# Altium footprint library LCSC_3.PcbLib: 12 footprints
Each footprint in its own frame and in the unit in brackets; x right, y up, seen from the top. Pads: shape width x height; smd on the part's side, far side on the other; paste and mask are expansions set on the pad; w line width, h text height; cw(c..) or ccw(c..) is an arc to the next point about the centre after c.
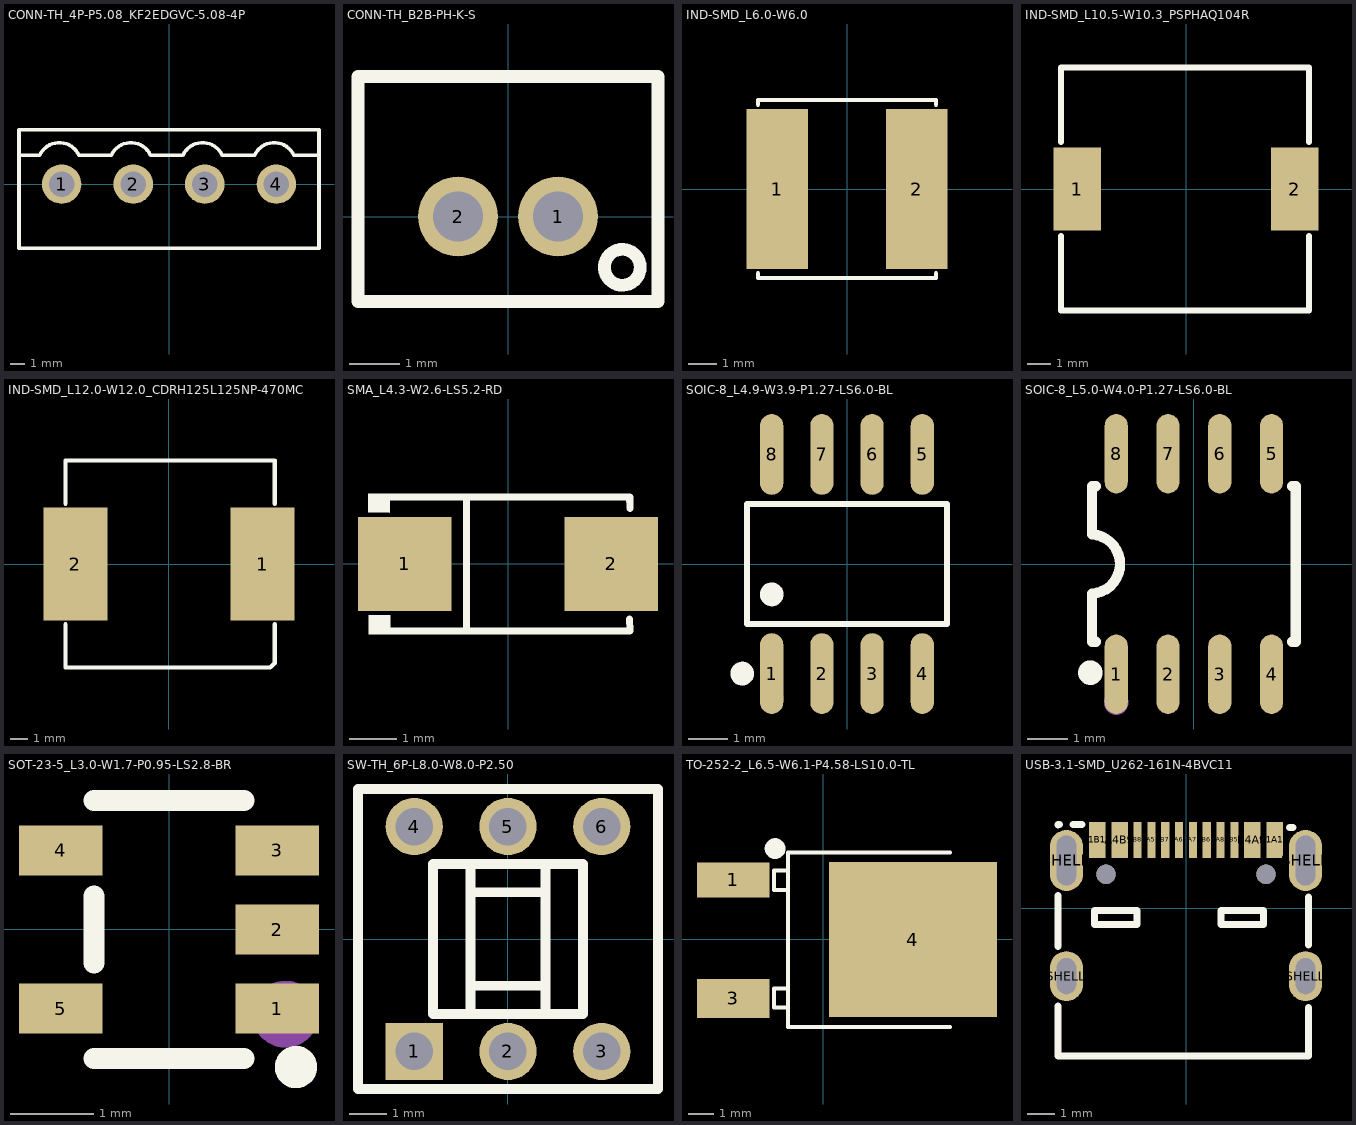
[diagram p0: the footprints below, top view; thin cyan lines are the x and y axes]

## CONN-TH_4P-P5.08_KF2EDGVC-5.08-4P [mm]
pads (4):
  round 2.8 hole 1.8: 1(-7.62,0) 2(-2.54,0) 3(2.54,0) 4(7.62,0)
Top Overlay:
  lines w0.254: -10.64,2.032 -9.177,2.032 cw(c-7.78,1.407) -6.383,2.032 -4.097,2.032 cw(c-2.7,1.407) -1.303,2.032 0.983,2.032 cw(c2.38,1.407) 3.777,2.032 6.063,2.032 cw(c7.46,1.407) 8.857,2.032 10.64,2.032 ; -10.64,-4.55 10.64,-4.55 10.64,3.85 -10.64,3.85 -10.64,-4.55

## CONN-TH_B2B-PH-K-S [mm]
pads (2):
  round 1.6 hole 1: 1(1,0) 2(-1,0)
Top Overlay:
  circle w0.254: c2.286,-1.016 r0.359
  lines w0.254: -3,-1.7 -3,2.8 3,2.8 3,-1.7 -3,-1.7

## IND-SMD_L6.0-W6.0 [mm]
pads (2):
  rect 2.2x5.72 smd: 1(-2.5,0) 2(2.5,0)
Top Overlay:
  lines w0.152: -3.176,-3.012 -3.176,-3.176 3.176,-3.176 3.176,-3.012 ; -3.176,3.012 -3.176,3.176 3.176,3.176 3.176,3.012

## IND-SMD_L10.5-W10.3_PSPHAQ104R [mm]
pads (2):
  rect 2x3.5 smd: 1(-4.605,0) 2(4.605,0)
Top Overlay:
  lines w0.254: -5.295,-1.981 -5.295,-5.15 5.205,-5.15 5.205,-1.981 ; -5.295,1.981 -5.295,5.15 5.205,5.15 5.205,1.981

## IND-SMD_L12.0-W12.0_CDRH125L125NP-470MC [mm]
pads (2):
  rect 3.7x6.5 smd: 1(5.4,0) 2(-5.4,0)
Top Overlay:
  lines w0.254: -5.969,-3.481 -5.969,-5.969 5.842,-5.969 6.096,-5.715 6.096,-3.481 ; -5.969,3.481 -5.969,5.969 6.096,5.969 6.096,3.481

## SMA_L4.3-W2.6-LS5.2-RD [mm]
pads (2):
  rect 2x2 smd: 1(-2.2,0) 2(2.2,0)
Top Overlay:
  region: -2.512,-1.096 -2.513,-1.503 -2.973,-1.498 -2.969,-1.096
  region: -2.52,1.502 -2.521,1.096 -2.981,1.1 -2.977,1.502
  lines w0.152: -2.596,-1.426 2.596,-1.426 ; -2.596,1.426 2.596,1.426 2.603,1.187 ; -0.884,-1.426 -0.884,1.426 ; 2.593,-1.176 2.6,-1.415
Mechanical 15:
  region: 2.014,-0.675 2.014,0.675 1.811,0.675 1.811,-0.675
  region: 2.29,-0.09 2.29,0.112 1.48,0.112 1.48,-0.09
  region: -2.317,-0.101 -2.317,0.101 -1.507,0.101 -1.507,-0.101

## SOIC-8_L4.9-W3.9-P1.27-LS6.0-BL [mm]
pads (8):
  oval 0.588x2.045 smd: 1(-1.905,-2.773) 2(-0.635,-2.773) 3(0.635,-2.773) 4(1.905,-2.773) 5(1.905,2.773) 6(0.635,2.773) 7(-0.635,2.773) 8(-1.905,2.773)
Top Overlay:
  circle w0.3: c-2.652,-2.772 r0.15
  circle w0.3: c-1.905,-0.769 r0.15
  lines w0.152: -2.526,-1.521 2.526,-1.521 2.526,1.521 -2.526,1.521 -2.526,-1.521
Mechanical 15:
  circle w0.3: c-1.905,-3.4 r0.15

## SOIC-8_L5.0-W4.0-P1.27-LS6.0-BL [mil]
pads (8):
  oval 22.38x76.78 smd: 1(-75,-106.5) 2(-25,-106.5) 3(25,-106.5) 4(75,-106.5) 5(75,106.5) 6(25,106.5) 7(-25,106.5) 8(-75,106.5)
Top Overlay:
  circle w11.81: c-100,-105 r5.91
  lines w10: -98.43,-28.61 ccw(c-99.99,0) -98.23,28.59 ; -98.42,-28.61 -98.42,-59.05 -98.42,-75 -94.83,-75 ; -98.42,28.59 -98.42,59.05 -98.42,75 -94.83,75 ; 94.83,-75 98.42,-75 98.42,-59.05 98.42,59.05 98.42,75 94.83,75
Mechanical 15:
  circle w11.81: c-75,-133.86 r5.91

## SOT-23-5_L3.0-W1.7-P0.95-LS2.8-BR [mm]
pads (5):
  rect 1x0.6 smd: 1(1.3,-0.95) 2(1.3,0) 3(1.3,0.95) 4(-1.3,0.95) 5(-1.3,-0.95)
Top Overlay:
  circle w0.254: c1.524,-1.651 r0.127
  lines w0.254: -0.9,-1.55 0.9,-1.55 ; -0.9,-0.4 -0.9,0.4 ; -0.9,1.55 0.9,1.55
Mechanical 15:
  circle w0.4: c1.397,-1.016 r0.2

## SW-TH_6P-L8.0-W8.0-P2.50 [mm]
pads (6):
  rect 1.524x1.524 hole 1: 1(-2.5,-3)
  round 1.524 hole 1: 2(0,-3) 3(2.5,-3) 4(-2.5,3) 5(0,3) 6(2.5,3)
Top Overlay:
  lines w0.254: -1,-2 -1,2 ; -1,-1.25 1,-1.25 ; -1,1.25 1,1.25 ; 1,-2 1,2 ; -4,-4 -4,4 4,4 4,-4 -4,-4 ; -2,-2 -2,2 2,2 2,-2 -2,-2

## TO-252-2_L6.5-W6.1-P4.58-LS10.0-TL [mm]
pads (3):
  rect 2.8x1.35 smd: 1(-3.475,2.29)
  rect 2.8x1.5 smd: 3(-3.475,-2.29)
  rect 6.5x6 smd: 4(3.475,-0.017)
Top Overlay:
  lines w0.152: -1.348,-2.635 -1.348,-2.645 -1.904,-2.645 -1.904,-1.903 -1.348,-1.903 ; -1.348,1.916 -1.348,1.905 -1.904,1.905 -1.904,2.647 -1.348,2.647 ; 4.903,-3.393 -1.349,-3.393 -1.349,3.359 4.903,3.359
  lines w0.4: -1.857,3.302 cw(c-1.856,3.502) -1.854,3.302
Mechanical 15:
  circle w0.5: c-4.165,2.286 r0.25

## USB-3.1-SMD_U262-161N-4BVC11 [mm]
pads (18):
  rect 0.6x1.3 smd: A1B12(-3.2,2.461) A4B9(-2.4,2.461) B1A12(3.2,2.461) B4A9(2.4,2.461)
  rect 0.3x1.3 smd: A5(-1.25,2.461) A6(-0.25,2.461) A7(0.25,2.461) A8(1.25,2.461) B5(1.75,2.461) B6(0.75,2.461) B7(-0.75,2.461) B8(-1.75,2.461)
  oval 1.2x1.8 hole 0.7 slot 1.3 at 90 deg: SHELL(-4.32,-2.461) SHELL(4.32,-2.461)
  oval 1.2x2.2 hole 0.7 slot 1.8 at 90 deg: SHELL(-4.32,1.719) SHELL(4.32,1.719)
  round 0.7 hole 0.7 unplated: ""(-2.89,1.219) ""(2.89,1.219)
Top Overlay:
  lines w0.254: -4.62,-3.536 -4.62,-5.349 4.42,-5.349 4.42,-3.586 ; -4.62,-1.386 -4.62,0.444 ; -4.62,2.994 -4.62,3.011 -4.565,3.011 ; -4.075,3.011 -3.76,3.011 ; 3.74,2.911 3.862,2.911 ; 4.42,-1.336 4.42,0.394 ; -3.302,-0.597 -3.302,-0.089 -1.778,-0.089 -1.778,-0.597 -3.302,-0.597 ; 1.27,-0.597 1.27,-0.089 2.794,-0.089 2.794,-0.597 1.27,-0.597
Top Paste:
  region: -3.5,3.111 -2.9,3.111 -2.9,1.811 -3.5,1.811
  region: -2.7,3.111 -2.1,3.111 -2.1,1.811 -2.7,1.811
  region: 2.9,3.111 3.5,3.111 3.5,1.811 2.9,1.811
  region: 2.1,3.111 2.7,3.111 2.7,1.811 2.1,1.811
  region: -1.9,3.111 -1.6,3.111 -1.6,1.811 -1.9,1.811
  region: -1.4,3.111 -1.1,3.111 -1.1,1.811 -1.4,1.811
  region: -0.9,3.111 -0.6,3.111 -0.6,1.811 -0.9,1.811
  region: -0.4,3.111 -0.1,3.111 -0.1,1.811 -0.4,1.811
  region: 0.1,3.111 0.4,3.111 0.4,1.811 0.1,1.811
  region: 0.6,3.111 0.9,3.111 0.9,1.811 0.6,1.811
  region: 1.1,3.111 1.4,3.111 1.4,1.811 1.1,1.811
  region: 1.6,3.111 1.9,3.111 1.9,1.811 1.6,1.811
  region: -4.92,2.219 -4.919,2.338 -4.827,2.557 -4.658,2.724 -4.439,2.815 -4.201,2.815 -3.981,2.724 -3.813,2.557 -3.721,2.338 -3.72,2.219 -3.72,1.219 -3.721,1.1 -3.813,0.881 -3.981,0.713 -4.201,0.623 -4.439,0.623 -4.658,0.713 -4.827,0.881 -4.919,1.1 -4.92,1.219
  region: 3.72,2.219 3.72,2.338 3.812,2.559 3.98,2.727 4.201,2.819 4.44,2.819 4.66,2.727 4.829,2.559 4.92,2.338 4.92,2.219 4.92,1.219 4.92,1.099 4.829,0.879 4.66,0.71 4.44,0.619 4.201,0.619 3.98,0.71 3.812,0.879 3.72,1.099 3.72,1.219
  region: -4.92,-2.161 -4.919,-2.043 -4.827,-1.823 -4.658,-1.656 -4.439,-1.565 -4.201,-1.565 -3.981,-1.656 -3.813,-1.823 -3.721,-2.043 -3.72,-2.161 -3.72,-2.761 -3.721,-2.88 -3.813,-3.099 -3.981,-3.267 -4.201,-3.357 -4.439,-3.357 -4.658,-3.267 -4.827,-3.099 -4.919,-2.88 -4.92,-2.761
  region: 3.72,-2.161 3.72,-2.042 3.812,-1.822 3.98,-1.653 4.201,-1.561 4.44,-1.561 4.66,-1.653 4.829,-1.822 4.92,-2.042 4.92,-2.161 4.92,-2.761 4.92,-2.881 4.829,-3.101 4.66,-3.27 4.44,-3.361 4.201,-3.361 3.98,-3.27 3.812,-3.101 3.72,-2.881 3.72,-2.761